# Altium schematic symbol library Component_Footprints.SchLib: 19 symbols
Pins are listed as number, name and electrical type; pins without a type are passive.

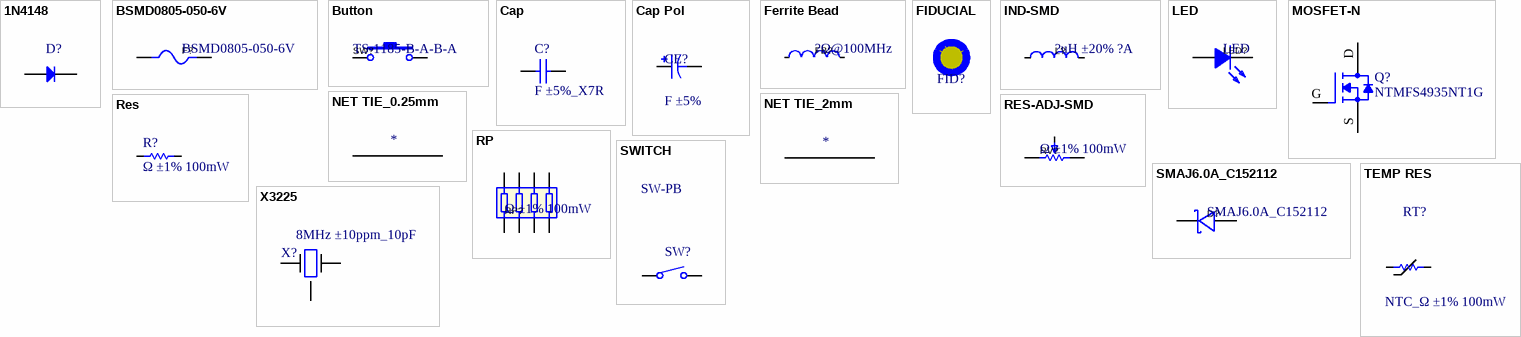
[diagram p0: symbols 1N4148 to X3225]

## 1N4148
designator D?
High Conductance Fast Diode; Published: 8-Jun-2000; LatestRevisionDate: 17-Jul-2002; LatestRevisionNote: Re-released for DXP Platform.; DatasheetVersion: 1997; PackageReference: DO-35; Publisher: Altium Limited; PackageDescription: Diode, Axial; Body 3.8 x 1.9 mm (LxDia. max), Lead Dia. 0.53 mm (max); Code_JEDEC: DO-204-AH; ComponentLink1Description: Manufacturer Link; ComponentLink1URL: http://www.fairchildsemi.com/; ComponentLink2Description: Datasheet; ComponentLink2URL: http://www.fairchildsemi.com/ds/1N%2F1N4148.pdf
footprint SOD-523F (L1.2-W0.8-LS1.7-RD)
footprint SOD-123F (L2.7-W1.6-LS3.8-RD)
pins: 1 K, 2 A

## BSMD0805-050-6V
designator F?
Manufacturer: BHFUSE(佰宏); Add into BOM: yes; Operating Voltage (Max): 6V; Current Rating (Max): 40A; Hold Current: 500mA; Trip Current: 1A; Power Dissipation: 500mW; Resistance - Initial (Ri) (Min): 100mΩ; Resistance - Post Trip (R1) (Max): 850mΩ; Maximum Time to Trip: 100ms; Name: BSMD0805-050-6V; Symbol: BSMD0805-050-6V; Device: BSMD0805-050-6V; LCSC Part Name: 6V 500mA 0805自恢复; Supplier Part: C883108; Manufacturer Part: BSMD0805-050-6V; Supplier Footprint: 0805; JLCPCB Part Class: Extended Part; Datasheet: https://atta.szlcsc.com/upload/public/pdf/source/20220223/3FD8E8A8A3681642EAEF465E16495357.pdf; Supplier: LCSC; Convert to PCB: yes; Operating Temperature: -40℃~+85℃
footprint F0805
3D model F0805_L2.1-W1.4-H0.8
pins: 1, 2

## Button
designator SW?, comment TS-1185-B-A-B-A
触点电流：50mA 额定电压(DC)：12V 电路结构：单刀单掷 安装方式：立贴 带灯：无 作用力：160gf 机械寿命：10万次 带支架：否 轻触开关3x4x2贴片2脚小龟 160gf; Manufacturer: XKB Connectivity(中国星坤); Add into BOM: yes; Contact Current: 50mA; Voltage Rating (DC): 12V; Circuit: 单刀单掷; Actuator Style: 圆形按钮; Actuator/Cap Color: 黑色; With Lamp: 无; Mechanical Life: 10万次; Switch Length: 4mm; Switch Width: 3mm; Switch Height: 2mm; Strike Gundam: 否; Name: TS-1185-B-A-B-A; Symbol: TS-1185-B-A-B-A; Device: TS-1185-B-A-B-A; LCSC Part Name: 4*3*2mm 立贴 轻触开关; Supplier Part: C561517; Manufacturer Part: TS-1185-B-A-B-A; Supplier Footprint: SMD; JLCPCB Part Class: Extended Part; Datasheet: https://atta.szlcsc.com/upload/public/pdf/source/20211011/C2F26DC0AE1820400F54DBF49644F5A1.pdf; Supplier: LCSC; Convert to PCB: yes; Insulation Resistance: -; Mounting Style: 立贴; Operating Force: 160gf; Operating Temperature: -30℃~+85℃
footprint SW-SMD_L4.0-W3.0-LS5.0
3D model SW-SMD_L4.0-W3.0-H2-LS5.0
pins: 1, 2

## Cap
designator C?, comment F ±5%_X7R
Capacitor; Published: 8-Jun-2000; LatestRevisionDate: 17-Jul-2002; LatestRevisionNote: Re-released for DXP Platform.; PackageReference: RAD-0.3; Publisher: Altium Limited; PackageDescription: Radial Cap, Thru-Hole; 2 Leads; 0.3 in Pin Spacing
simulation model CAP (Capacitor)
signal-integrity model Cap
footprint C0805
footprint C0603
footprint C1206
footprint C0402
footprint C1210
pins: 1, 2

## Cap Pol
designator CE?, comment F ±5%
Polarized Capacitor (Axial); Published: 8-Jun-2000; LatestRevisionDate: 17-Jul-2002; LatestRevisionNote: Re-released for DXP Platform.; PackageReference: POLAR0.8; Publisher: Altium Limited; PackageDescription: Polarized Capacitor; 2 Leads
simulation model CAP (Capacitor)
signal-integrity model Cap Pol
footprint CAP-SMD (BD4.0-L4.3-W4.3-FD-LS5.3)
footprint CAP-SMD-R-RD (Tantalum capacitor)
footprint CAP_ELEC_SIZE_G (Capacitor, polarized, aluminum can; 10.0x10.2mm DxH)
pins: 1, 2
1 alternate drawing of the same symbol

## Ferrite Bead
designator FB?, comment ?Ω@100MHz
标称阻抗@测试频率:600Ω@100MHz;误差:±25%;直流电阻(RDC):250mΩ;额定电流:2A; Manufacturer: FH(风华); Name: CBW321609U601T; Add into BOM: yes; Tolerance: ±25%; DC Resistance: 250mΩ; Current Rating: 2A; Circuits: 1; Symbol: CBW321609U601T; Device: CBW321609U601T; LCSC Part Name: 600Ω@100MHz ±25%; Supplier Part: C73732; Manufacturer Part: CBW321609U601T; Supplier Footprint: SMD; JLCPCB Part Class: Extended Part; Datasheet: https://atta.szlcsc.com/upload/public/pdf/source/20160606/1465200211209.pdf; Supplier: LCSC; Convert to PCB: yes; Impedance @ Frequency: 600Ω@100MHz
footprint L0603
footprint L0805
footprint L1206
pins: 1, 2

## FIDUCIAL
designator FID?, comment MARK Point  (value not drawn)
1mm Fiducial with 2mm soldermask, 3mm keepout
footprint FIDUCIAL (1mm fiducial with 3mm keepout)

## IND-SMD
designator L?, comment ?uH ±20% ?A
电感值:10uH;精度:±20%;额定电流:4A;饱和电流(Isat):5.5A;直流电阻(DCR):62mΩ;; Manufacturer: PSA(信昌电陶); Name: 10uH; Symbol: MCS0630-100MPY1; Add into BOM: yes; Value: 10uH; Rated Current: 4A; Saturation Current (Isat): 5.5A; DC Resistance (DCR): 62mΩ; Device: MCS0630-100MPY1; LCSC Part Name: 10uH ±20% 4A 62mΩ; Supplier Part: C2937094; Manufacturer Part: MCS0630-100MPY1; Supplier Footprint: 0630; JLCPCB Part Class: Extended Part; Datasheet: https://atta.szlcsc.com/upload/public/pdf/source/20220121/EA6E6E6F70ED7BAE67EC293805EAAACB.pdf; Supplier: LCSC; Convert to PCB: yes; Tolerance: ±20%
footprint IND-SMD_L7.3-W6.6 (L7.3-W6.6)
3D model IND-SMD_L7.1-W6.6-H2.8
pins: 1, 2

## LED
designator LED?
发光颜色:; Manufacturer: EVERLIGHT(亿光); Name: 17-21SURC/S530-A2/TR8; Add into BOM: yes; Emitted Color: 红灯; Symbol: 17-21SURC/S530-A2/TR8; Device: 17-21SURC/S530-A2/TR8; LCSC Part Name: 红灯; Supplier Part: C131244; Manufacturer Part: 17-21SURC/S530-A2/TR8; Supplier Footprint: 0805; JLCPCB Part Class: Extended Part; Datasheet: https://atta.szlcsc.com/upload/public/pdf/source/20170918/C131244_1505726880590976254.pdf; Supplier: LCSC; Convert to PCB: yes
3D model LED0603-R-RD
footprint LED0603-RD
footprint LED0805-R-RD
pins: 1 A, 2 K

## MOSFET-N
designator Q?, comment NTMFS4935NT1G
MOSFET – Power, Single, / N-Channel, SO-8 FL / 30 V, 93 A; Manufacturer: ON Semiconductor; Drain to Source Voltage (Vdss): 30V; Current - Continuous Drain (Id) @ 25°C: 13A (Ta), 93A (Tc); Drive Voltage (Max Rds On,  Min Rds On): 4.5V, 10V; Vgs(th) (Max) @ Id: 2.2V @ 250µA; Gate Charge (Qg) (Max) @ Vgs: 49.4nC @ 10V; Input Capacitance (Ciss) (Max) @ Vds: 4850pF @ 15V; Vgs (Max): ±20V; Power Dissipation (Max): 930mW (Ta), 48W (Tc); Rds On (Max) @ Id, Vgs: 3.2 mOhm @ 30A, 10V; Supplier 1: Digi-Key; Supplier Part Number 1: NTMFS4935NT1GOSCT-ND; RoHS: RoHS Compliant; Category: Discrete Semiconductor Products; Stock 1: 932; Pricing 1: 1=0.61, 10=0.541, 100=0.4145, 500=0.3277 (USD); Packaging: Cut Tape (CT); Part Status: Active; FET Type: N-Channel; Technology: MOSFET (Metal Oxide); FET Feature: -; Operating Temperature: -55°C ~ 150°C (TJ); Mounting Type: Surface Mount; Supplier Device Package: 5-DFN (5x6) (8-SOFL); Package / Case: 8-PowerTDFN, 5 Leads; ComponentLink1URL: http://www.onsemi.com/pub_link/Collateral/NTMFS4935N-D.PDF; ComponentLink1Description: http://www.onsemi.com/pub_link/Collateral/NTMFS4935N-D.PDF; Manufacturer Part Number: NTMFS4935NT1G
footprint SO-8-FL_L4.8-W5.8-P1.27-LS6.1-L
pins: D, G, S

## NET TIE_0.25mm
designator *  (value not drawn)
footprint NetTie_0.25mm (Net tie, 0.25mm)
pins: 1, 2

## NET TIE_2mm
designator *  (value not drawn)
footprint NetTie_2mm (Net tie, 2mm round)
pins: 1, 2

## Res
designator R?, comment Ω ±1% 100mW
Resistor; Published: 8-Jun-2000; LatestRevisionDate: 17-Jul-2002; LatestRevisionNote: Re-released for DXP Platform.; PackageReference: AXIAL-0.3; Publisher: Altium Limited; PackageDescription: Axial Device, Thru-Hole; 2 Leads; 0.3 in Pin Spacing
simulation model RESISTOR (Resistor)
signal-integrity model Res
footprint R0603
footprint R0805
footprint R0402
footprint R2512
footprint R1206
pins: 1, 2

## RES-ADJ-SMD
designator RV?, comment Ω ±1% 100mW
阻值:50kΩ;精度:±25%;功率:150mW;; Manufacturer: HDK(北陆电气); Name: 50kΩ; Symbol: VG039NCHXTB503; Add into BOM: yes; Value: 50kΩ; Tolerance: ±25%; Power(Watts): 150mW; Turns: 1; Device: VG039NCHXTB503; LCSC Part Name: VG039NCHXTB503; Supplier Part: C145161; Manufacturer Part: VG039NCHXTB503; Supplier Footprint: SMD; JLCPCB Part Class: Extended Part; Datasheet: https://atta.szlcsc.com/upload/public/pdf/source/20171123/C145161_15114111011641137837.pdf; Supplier: LCSC; Convert to PCB: yes; Rated Voltage: -
footprint RES-ADJ-SMD (VG039NCH)
3D model RES-ADJ-SMD_3P-L3.8-W3.0-H1.2-P1.90
pins: 1, 2, 3

## RP
designator RP?, comment Ω ±1% 100mW
Manufacturer: YAGEO(国巨); Name: 30Ω; Symbol: YC124-JR-0730RL; Add into BOM: yes; Value: 30Ω; Tolerance: ±5%; Power(Watts): 62.5mW; Number of Resistors: 4; Temperature Coefficient: ±200ppm/℃; Device: YC124-JR-0730RL; LCSC Part Name: 30Ω ±5% 0402x4; Supplier Part: C136847; Manufacturer Part: YC124-JR-0730RL; Supplier Footprint: 0402x4; JLCPCB Part Class: Extended Part; Datasheet: https://atta.szlcsc.com/upload/public/pdf/source/20171116/C136847_15108221195481123713.pdf; Supplier: LCSC; Convert to PCB: yes; Number of Pins: 8
footprint RES-ARRAY-SMD_0402-8P-L2.0-W1.0-BL
3D model R0402-8P_L2.0-W1.0-H0.5
footprint RES-ARRAY-SMD_0603-8P-L3.2-W1.6-BL
pins: 1, 2, 3, 4, 5, 6, 7, 8

## SMAJ6.0A_C152112
designator D?
Manufacturer: BORN(伯恩半导体); Add into BOM: yes; Polarity: 单向; Reverse Stand-Off Voltage (Vrwm): 6V; Breakdown Voltage: 6.67V; Peak Pulse Current (Ipp)@10/1000μs: 38.8A; Maximum Clamping Voltage: 10.3V; Name: SMAJ6.0A; Symbol: SMAJ6.0A_C152112; Device: SMAJ6.0A_C152112; LCSC Part Name: 单向 Vrwm:6V; Supplier Part: C152112; Manufacturer Part: SMAJ6.0A; Supplier Footprint: SMA(DO-214AC); JLCPCB Part Class: Extended Part; Datasheet: https://atta.szlcsc.com/upload/public/pdf/source/20180207/C152112_15179949389561359152.pdf; Supplier: LCSC; Convert to PCB: yes
footprint SMA_L4.4-W2.6-LS5.0-RD
3D model SMA_L4.4-W2.6-LS5.0-RD
pins: 1 K, 2 A

## SWITCH
designator SW?, comment SW-PB
Switch; Published: 24-Mar-1999; LatestRevisionDate: 17-Jul-2002; LatestRevisionNote: Re-released for DXP Platform.; PackageReference: SPST-2; Publisher: Altium Limited; PackageDescription: Switch; 2 Leads
footprint SPST-2 (Switch; 2 Leads)
pins: 1, 2

## TEMP RES
designator RT?, comment NTC_Ω ±1% 100mW
THERMISTOR 10K OHM NTC 0402 SMD
footprint R0402
footprint R0603
footprint R0805
footprint R2512
pins: 1, 2

## X3225
designator X?, comment 8MHz ±10ppm_10pF
Crystal 8MHz ±10ppm 10pF 200 Ohm -10°C ~ 60°C Surface Mount 4-SMD, No Lead (DFN, LCC); Manufacturer: Abracon LLC; Manufacturer Part Number: ABM3B-8.000MHZ-10-1-U-T; Operating Mode: Fundamental; Supplier 1: Digi-Key; Supplier Part Number 1: 535-9721-1-ND; RoHS: RoHS Compliant; Category: Crystals, Oscillators, Resonators; Stock: 35437; Pricing 1: 1=0.69, 10=0.578, 50=0.5198, 100=0.462, 500=0.4389 (USD); Packaging: Cut Tape (CT); Part Status: Active; Type: MHz Crystal; Frequency Stability: ±10ppm; Frequency Tolerance: ±10ppm; Load Capacitance: 10pF; Operating Temperature: -10°C ~ 60°C; Ratings: -; Mounting Type: Surface Mount; Package / Case: 4-SMD, No Lead; Size / Dimension: 0.197" L x 0.126" W (5.00mm x 3.20mm); Height - Seated (Max): 0.043" (1.10mm); ComponentLink1URL: http://www.abracon.com/Resonators/abm3b.pdf; ComponentLink1Description: http://www.abracon.com/Resonators/abm3b.pdf; Supplier 2: Digi-Key; Supplier Part Number 2: 535-9721-2-ND; Pricing 2: 1000=0.336, 3000=0.315, 5000=0.3045, 10000=0.294 (USD)
footprint CRYSTAL_3225 (4P-L3.2-W2.5-BL-2)
pins: 1, 3, G